# Altium schematic symbol library GL3520 4 Ports.SchLib: 6 symbols
Pins are listed as number, name and electrical type; pins without a type are passive.

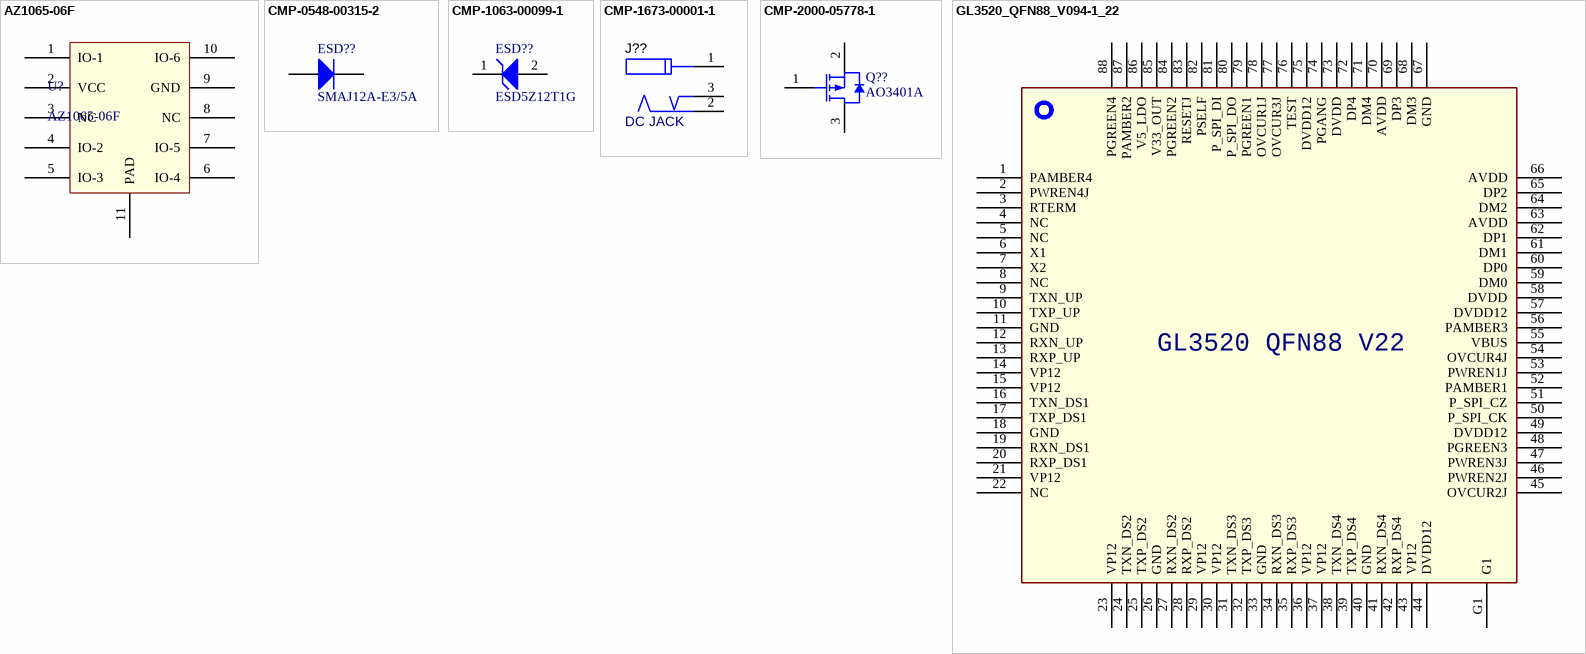
[diagram p0: symbols AZ1065-06F to GL3520_QFN88_V094-1_22]

## AZ1065-06F
designator U?
晶炎AZ1065-06F.R7G DFN4120 丝印119 ESD/TVS静电保护二极管
pins: 1 IO-1, 2 VCC, 3 NC, 4 IO-2, 5 IO-3, 6 IO-4, 7 IO-5, 8 NC, 9 GND, 10 IO-6, 11 PAD

## CMP-0548-00315-2
designator ESD??, comment SMAJ12A-E3/5A
Transient Voltage Suppressor, 6.40 to 231 V, 12 V Stand-off Voltage, Uni-Directional, -55 to 155 degC, 2-pin DO-214AC, Pb-Free, Tape and Reel; Manufacturer: Vishay Semiconductor; IFSM: 40 A; ID (uA): 1; VBR Uni-Directional (V): 6.4 to 231; PPPM (W): 400, 300; VWM (V): 12; PartNumber: SMAJ12A-E3/5A; ComponentLink2URL: http://www.vishay.com/docs/88390/smaj50a.pdf; Packing: Tape and Reel; DatasheetVersion: 12/8/2013; Operating Junction and Storage Temperature Range: -55 to 150 degC; Mounting Technology: Surface Mount; PackageDescription: 2-Pin DO-214AC (SMA), Body 4.245 x 2.665 mm; ComponentLink1URL: http://www.vishay.com/; ComponentLink3Description: Package Specification; PackageReference: DO-214AC-2; ComponentLink1Description: Manufacturer URL; ComponentLink2Description: Datasheet; RoHS: TRUE; ComponentLink3URL: http://www.vishay.com/docs/88390/smaj50a.pdf
footprint VISH-DO-214AC-2_M (DO-214AC, 2-Leads, Body 4.5x2.79mm, IPC Low Density)
footprint VISH-DO-214AC-2_N (DO-214AC, 2-Leads, Body 4.5x2.79mm, IPC Medium Density)
footprint VISH-DO-214AC-2_L (DO-214AC, 2-Leads, Body 4.5x2.79mm, IPC High Density)
pins: 1 K, 2 A

## CMP-1063-00099-1
designator ESD??, comment ESD5Z12T1G
Transient Voltage Suppressor, Micro-Packaged Diode for ESD Protection, 2-Pin SOD-523, Pb-Free, Tape and Reel; Manufacturer: On Semiconductor; VRWM Max (V): 12; Number of Lines: 1; V(BR) Min (V): 14.1; Direction: Unidirectional; IR Max (uA): 0.01; PPK Max (W): 240; ComponentLink1URL: http://www.onsemi.com/; PartNumber: ESD5Z12T1G; RoHS: Pb-Free; ComponentLink3Description: Package Specification; PackageVersion: Rev. E, 09/2010; PackageReference: SOD-523-2-502-01; PackageDescription: 2-Pin SOD, Body 1.2 x 0.8 mm; ComponentLink2Description: Datasheet; ComponentLink1Description: Manufacturer URL; Mounting Technology: Surface Mount; DatasheetVersion: Rev. 10; ComponentLink3URL: http://www.onsemi.com/pub_link/Collateral/502-01.PDF; ComponentLink2URL: http://www.onsemi.cn/pub_link/Collateral/ESD5Z2.5T1-D.PDF; Packing: Tape and Reel
footprint ONSC-SOD-523-2-502-01_V (SOD, 2-Leads, Body 1.2x0.8mm)
pins: 1 K, 2 A

## CMP-1673-00001-1
designator J??, comment DC JACK
DC Power Connectors 2mm PCB JACK POWER JACK; PartNumber: KLDX-0202-A; ComponentLink1URL: http://www.mouser.com/ds/2/222/KLDX_0202_LT-334784.pdf; ComponentLink1Description: Datasheet; PackageReference: KLDX-0202-A
footprint KYCN-KLDX-0202-A_V
pins: 1, 2, 3

## CMP-2000-05778-1
designator Q??, comment AO3401A
P-Channel MOSFET, 30 V, 4 A, -55 to 150 degC, 3-Pin SOT-23-3L, RoHS, Tape and Reel; Manufacturer: Alpha and Omega; Output Power (Max): NotRequiredW; Power Dissipation: 1.4W; Rad Hardened: No; Drain Efficiency: NotRequired%; Drain-Source On-Volt: 30V; Noise Figure: NotRequireddB; Frequency (Max): NotRequiredMHz; Number of  Elements: 1; Gate-Source Voltage (Max): ?12V; Drain Current (Max): 4A; Channel Mode: Enhancement; Drain-Source On-Res: 0.044ohm; Type: PowerMOSFET; Polarity: P; Package URL: http://www.aosmd.com/res/packaging_information/SOT-23-3L.pdf; Datasheet URL: http://www.aosmd.com/res/data_sheets/AO3401A.pdf; Package Type: SOT-23; Package Description: 3-Pin Small Outline Transistor, Body 2.95 x 1.6 mm, Pitch 0.95 mm; Mounting: SurfaceMount; Manufacturer URL: http://www.aosmd.com/; Continuous Drain Current: 4A; Package Reference: SOT-23-3L; Mounting Technology: SurfaceMount; Operating Temperature Classification: Military; Power Gain: NotRequireddB; Datasheet Version: Rev. 3, 03/2011; Operating Temp Range: -55Cto150C; Pin Count: 3
footprint AO-SOT-23-3L_V (SOT23, 3-Leads, Body 3.1x1.8mm, Pitch 0.95mm)
pins: 1 GATE, 2 SOURCE, 3 DRAIN

## GL3520_QFN88_V094-1_22
designator U??  (value not drawn)
footprint I-LQFP128-0_4A
pins: 1 PAMBER4, 2 PWREN4J, 3 RTERM, 4 NC, 5 NC, 6 X1, 7 X2, 8 NC, 9 TXN_UP, 10 TXP_UP, 11 GND, 12 RXN_UP, 13 RXP_UP, 14 VP12, 15 VP12, 16 TXN_DS1, 17 TXP_DS1, 18 GND, 19 RXN_DS1, 20 RXP_DS1, 21 VP12, 22 NC, 23 VP12, 24 TXN_DS2, 25 TXP_DS2, 26 GND, 27 RXN_DS2, 28 RXP_DS2, 29 VP12, 30 VP12, 31 TXN_DS3, 32 TXP_DS3, 33 GND, 34 RXN_DS3, 35 RXP_DS3, 36 VP12, 37 VP12, 38 TXN_DS4, 39 TXP_DS4, 40 GND, 41 RXN_DS4, 42 RXP_DS4, 43 VP12, 44 DVDD12, 45 OVCUR2J, 46 PWREN2J, 47 PWREN3J, 48 PGREEN3, 49 DVDD12, 50 P_SPI_CK, 51 P_SPI_CZ, 52 PAMBER1, 53 PWREN1J, 54 OVCUR4J, 55 VBUS, 56 PAMBER3, 57 DVDD12, 58 DVDD, 59 DM0, 60 DP0, 61 DM1, 62 DP1, 63 AVDD, 64 DM2, 65 DP2, 66 AVDD, 67 GND, 68 DM3, 69 DP3, 70 AVDD, 71 DM4, 72 DP4, 73 DVDD, 74 PGANG, 75 DVDD12, 76 TEST, 77 OVCUR3J, 78 OVCUR1J, 79 PGREEN1, 80 P_SPI_DO, 81 P_SPI_DI, 82 PSELF, 83 RESETJ, 84 PGREEN2, 85 V33_OUT, 86 V5_LDO, 87 PAMBER2, 88 PGREEN4, G1
text: GL3520 QFN88 V22